# Altium footprint library CNC Main Board.PcbLib: 12 footprints
Each footprint in its own frame and in the unit in brackets; x right, y up, seen from the top. Pads: shape width x height; smd on the part's side, far side on the other; paste and mask are expansions set on the pad; w line width, h text height; cw(c..) or ccw(c..) is an arc to the next point about the centre after c.
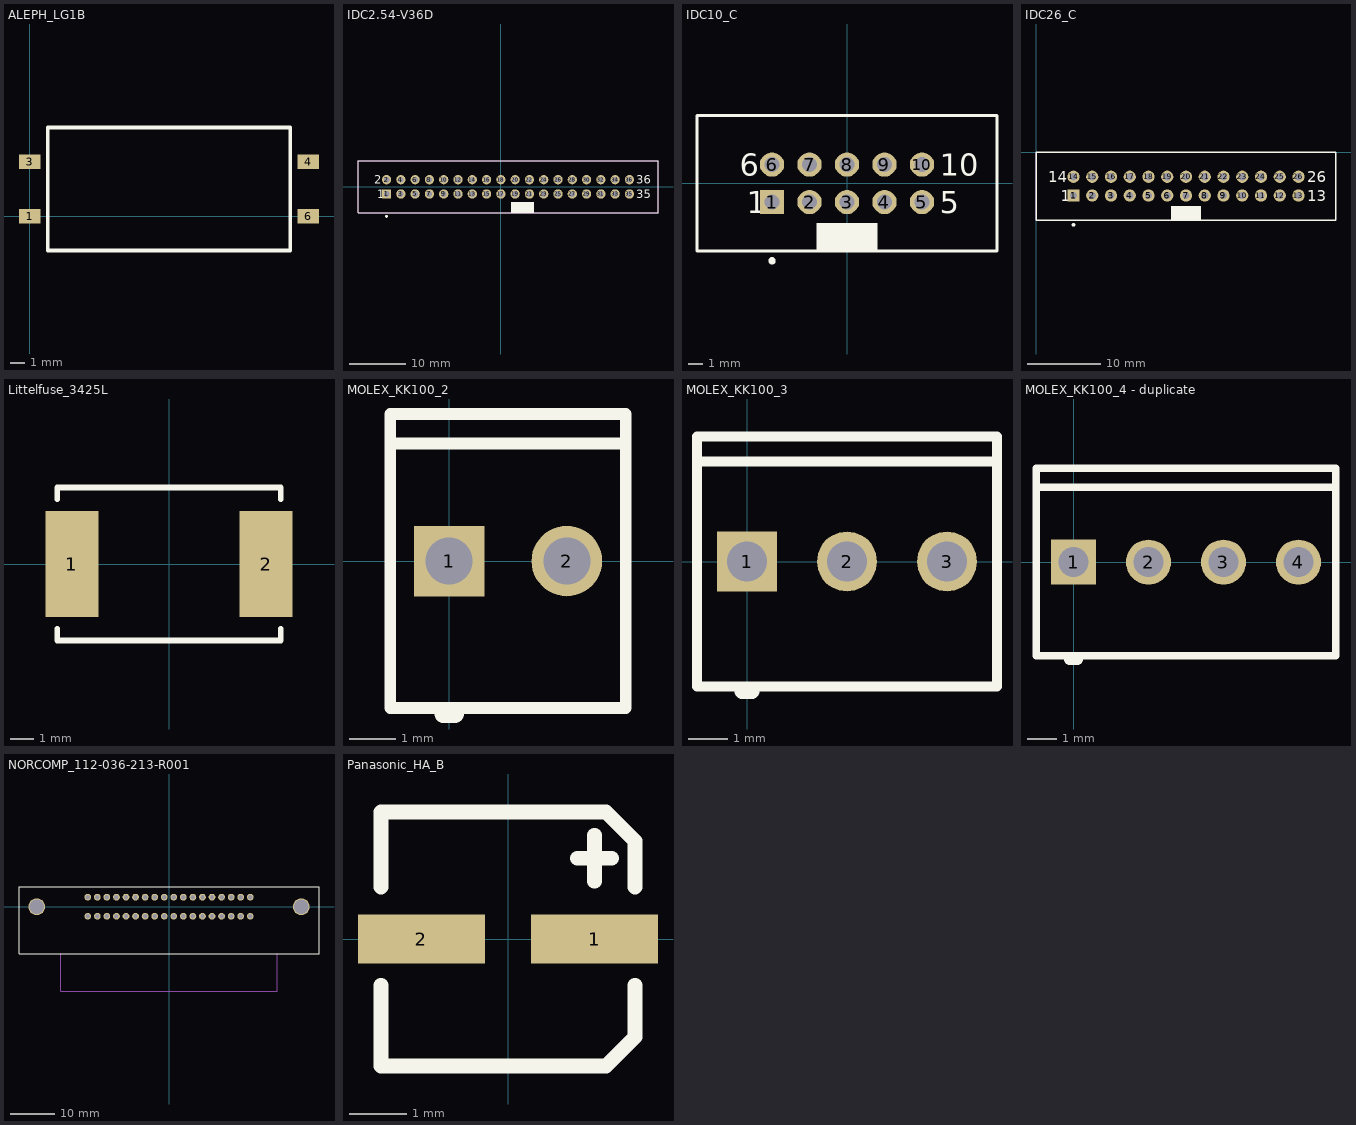
[diagram p0: the footprints below, top view; thin cyan lines are the x and y axes]

## ALEPH_LG1B [mil]
pads (4):
  rect 60x40 smd: 1(0,0) 3(0,150) 4(770,150) 6(770,0)
Top Overlay:
  lines w10: 50,-95 720,-95 720,245 50,245 50,-95

## IDC2.54-V36D [mm]
pads (36):
  rect 1.65x1.65 hole 1: 1(-20.32,-1.27)
  round 1.65 hole 1: 2(-20.32,1.27) 3(-17.78,-1.27) 4(-17.78,1.27) 5(-15.24,-1.27) 6(-15.24,1.27) 7(-12.7,-1.27) 8(-12.7,1.27) 9(-10.16,-1.27) 10(-10.16,1.27) 11(-7.62,-1.27) 12(-7.62,1.27) 13(-5.08,-1.27) 14(-5.08,1.27) 15(-2.54,-1.27) 16(-2.54,1.27) 17(0,-1.27) 18(0,1.27) 19(2.54,-1.27) 20(2.54,1.27) 21(5.08,-1.27) 22(5.08,1.27) 23(7.62,-1.27) 24(7.62,1.27) 25(10.16,-1.27) 26(10.16,1.27) 27(12.7,-1.27) 28(12.7,1.27) 29(15.24,-1.27) 30(15.24,1.27) 31(17.78,-1.27) 32(17.78,1.27) 33(20.32,-1.27) 34(20.32,1.27) 35(22.86,-1.27) 36(22.86,1.27)
Top Overlay:
  circle w0.25: c-20.32,-5.25 r0.125
  rectangle: 1.76,-4.6 5.86,-2.7
  lines w0.2: -25.4,-4.6 -25.4,4.6 27.94,4.6 27.94,-4.6 -25.4,-4.6
  text "2" at -22.52,0.52 h1.5
  text "1" at -22.02,-2.02 h1.5
  text "36" at 24.06,0.52 h1.5
  text "35" at 24.06,-2.02 h1.5
Mechanical 13:
  lines w0.1: -25.4,-4.6 27.94,-4.6 27.94,4.572 27.912,4.6 -25.4,4.6 -25.4,-4.6
3D body: height 9.45, standoff 0, extent -25.4,-4.6 27.94,4.6

## IDC10_C [mm]
pads (10):
  rect 1.65x1.65 hole 1: 1(-5.08,-1.27)
  round 1.65 hole 1: 2(-2.54,-1.27) 3(0,-1.27) 4(2.54,-1.27) 5(5.08,-1.27) 6(-5.08,1.27) 7(-2.54,1.27) 8(0,1.27) 9(2.54,1.27) 10(5.08,1.27)
Top Overlay:
  circle w0.25: c-5.08,-5.25 r0.125
  rectangle: -2.05,-4.6 2.05,-2.7
  lines w0.2: -10.16,-4.6 10.16,-4.6 10.16,4.6 -10.16,4.6 -10.16,-4.6
  text "5" at 6.28,-2.02 h1.5
  text "10" at 6.28,0.52 h1.5
  text "1" at -6.78,-2.02 h1.5
  text "6" at -7.28,0.52 h1.5
Mechanical 13:
  lines w0.1: -10.16,-4.6 -10.16,4.6 10.16,4.6 10.16,-4.6 -10.16,-4.6
3D body: height 9.45, standoff 0, extent -10.16,-4.6 10.16,4.6

## IDC26_C [mm] "Centronics pinout of IDC26 maile header"
pads (26):
  rect 1.65x1.65 hole 1: 1(5.08,-5.87)
  round 1.65 hole 1: 2(7.62,-5.87) 3(10.16,-5.87) 4(12.7,-5.87) 5(15.24,-5.87) 6(17.78,-5.87) 7(20.32,-5.87) 8(22.86,-5.87) 9(25.4,-5.87) 10(27.94,-5.87) 11(30.48,-5.87) 12(33.02,-5.87) 13(35.56,-5.87) 14(5.08,-3.33) 15(7.62,-3.33) 16(10.16,-3.33) 17(12.7,-3.33) 18(15.24,-3.33) 19(17.78,-3.33) 20(20.32,-3.33) 21(22.86,-3.33) 22(25.4,-3.33) 23(27.94,-3.33) 24(30.48,-3.33) 25(33.02,-3.33) 26(35.56,-3.33)
Top Overlay:
  circle w0.25: c5.08,-9.85 r0.125
  rectangle: 18.27,-9.2 22.37,-7.3
  lines w0.2: 0,-9.2 40.64,-9.2 40.64,0 0,0 0,-9.2
  text "13" at 36.76,-6.62 h1.5
  text "26" at 36.76,-4.08 h1.5
  text "1" at 3.38,-6.62 h1.5
  text "14" at 1.651,-4.064 h1.5
Mechanical 13:
  lines w0.1: 0,-9.2 0,0 40.64,0 40.64,-9.2 0,-9.2
3D body: height 9.45, standoff 0, extent 0,-9.2 40.64,0

## Littelfuse_3425L [mil]
pads (2):
  rect 90x180 smd: 1(-165,0) 2(165,0)
Top Overlay:
  lines w10: -190,-110 -190,-130 190,-130 190,-110 ; -190,110 -190,130 0,130 190,130 190,110

## MOLEX_KK100_2 [mil]
pads (2):
  rect 60x60 hole 40: 1(0,0)
  round 60 hole 40: 2(100,0)
Top Overlay:
  lines w10: -45,100 150,100 ; -50,-125 150,-125 150,125 -50,125 -50,-125
  lines w15: -5,-130 5,-130

## MOLEX_KK100_3 [mil]
pads (3):
  rect 60x60 hole 40: 1(0,0)
  round 60 hole 40: 2(100,0) 3(200,0)
Top Overlay:
  lines w10: -45,100 250,100 ; 249,-125 -50,-125 -50,125 250,125 250,-125
  lines w15: -5,-130 5,-130

## MOLEX_KK100_4 - duplicate [mil]
pads (4):
  rect 60x60 hole 40: 1(0,0)
  round 60 hole 40: 2(100,0) 3(200,0) 4(300,0)
Top Overlay:
  lines w10: -45,100 345,100 ; -50,-125 -50,125 350,125 350,-125 -50,-125
  lines w15: -5,-130 5,-130

## NORCOMP_112-036-213-R001 [mil]
pads (38):
  round 60 hole 39: 1(722.5,85) 2(637.5,85) 3(552.5,85) 4(467.5,85) 5(382.5,85) 6(297.5,85) 7(212.5,85) 8(127.5,85) 9(42.5,85) 10(-42.5,85) 11(-127.5,85) 12(-212.5,85) 13(-297.5,85) 14(-382.5,85) 15(-467.5,85) 16(-552.5,85) 17(-637.5,85) 18(-722.5,85) 19(722.5,-85) 20(637.5,-85) 21(552.5,-85) 22(467.5,-85) 23(382.5,-85) 24(297.5,-85) 25(212.5,-85) 26(127.5,-85) 27(42.5,-85) 28(-42.5,-85) 29(-127.5,-85) 30(-212.5,-85) 31(-297.5,-85) 32(-382.5,-85) 33(-467.5,-85) 34(-552.5,-85) 35(-637.5,-85) 36(-722.5,-85)
  round 150 hole 125: ""(-1176,0) ""(1176,0)
Top Overlay:
  lines w10: -1334,-417 1334,-417 1334,178 -1334,178 -1334,-417
Mechanical 13:
  lines w10: -963,-417 -963,-752 963,-752 963,-417

## Panasonic_HA_B [mm]
pads (2):
  rect 2.2x0.85 smd: 1(1.5,0) 2(-1.5,0)
Top Overlay:
  lines w0.254: -2.2,-0.8 -2.2,-2.2 1.7,-2.2 2.2,-1.7 2.2,-0.8 ; -2.2,0.9 -2.2,2.2 1.7,2.2 2.2,1.7 2.2,0.9 ; 1.2,1.4 1.8,1.4 ; 1.5,1 1.5,1.8

## PCBComponent_1 [mil]

## PCBComponent_1 - duplicate [mil]